# EAGLE library part N30-6841 (library N30-6841)
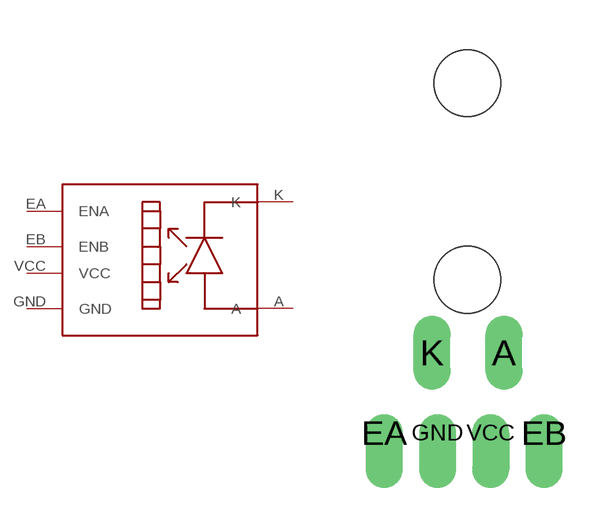
[diagram p0: symbol with the pads of N30-6841; footprint N30-6841]

Designator prefix -

## N30-6841  [N30-6841]
A  A
EA  ENA
EB  ENB
GND  GND  pwr
K  K
VCC  VCC  pwr

## Footprint N30-6841 (pad centres in mm)
drill 0.6 long: A 1.2,2.4; K -0.96,2.4
drill 0.6 offset: EA -2.4,0; EB 2.4,0; GND -0.8,0; VCC 0.8,0
hole 2 at 0.1,4.6
hole 2 at 0.1,10.5